# EAGLE library part MCP2561 (library MCP2561)
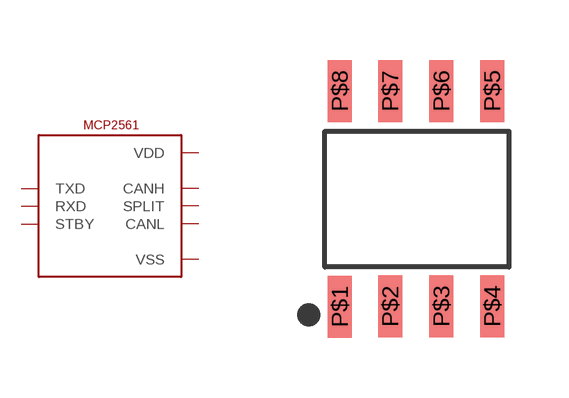
[diagram p0: symbol with the pads of SOIC8; footprint SOIC8]

Designator prefix -

## MCP2561 (Availability: Warning; Description: MCP2561 Series 5.5 V 8 Mbps High-Speed CAN Flexible Data Rate Transceiver-SOIC-8; MF: Microchip; MP: MCP2561FD-E/SN; Package: SOIC-8 Microchip; Price: 0.91 USD)  [SOIC8]
P$1  TXD
P$2  VSS
P$3  VDD
P$4  RXD
P$5  SPLIT
P$6  CANL
P$7  CANH
P$8  STBY

## Footprint SOIC8 (pad centres in mm)
smd 0.6 x 1.55: P$1 -3.83,-0.29; P$2 -2.57,-0.28; P$3 -1.29,-0.28; P$4 -0.02,-0.28; P$5 -0.02,5.11; P$6 -1.29,5.11; P$7 -2.57,5.11; P$8 -3.83,5.11